# Altium footprint library SOT.PcbLib: 5 footprints
Each footprint in its own frame and in the unit in brackets; x right, y up, seen from the top. Pads: shape width x height; smd on the part's side, far side on the other; paste and mask are expansions set on the pad; w line width, h text height; cw(c..) or ccw(c..) is an arc to the next point about the centre after c.
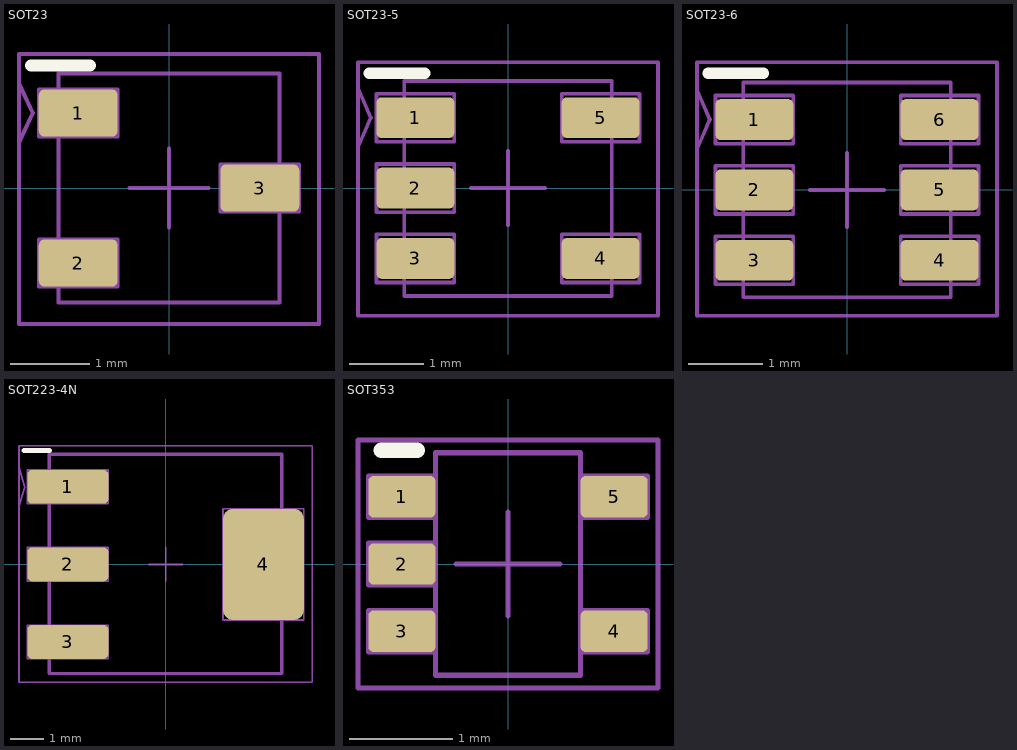
[diagram p0: the footprints below, top view; thin cyan lines are the x and y axes]

## SOT23 [mm] "SOT23 PACKAGE, 3 PIN"
height 1.3
pads (3):
  rrect25% 1x0.6 smd paste+0 mask+0.075: 1(-1.15,0.95) 2(-1.15,-0.95) 3(1.15,0)
Top Overlay:
  lines w0.152: -1.75,1.55 -1,1.55
Top Courtyard:
  lines w0.05: -1.9,0.575 -1.725,0.95 -1.9,1.325 ; -0.5,0 0,0 ; 0,-0.5 0,0 ; 0,0.5 0,0 ; 0.5,0 0,0 ; -1.9,-1.725 1.9,-1.725 1.9,1.7 -1.9,1.7 -1.9,-1.725
Top Assembly:
  lines w0.05: -1.65,-1.25 -0.65,-1.25 -0.65,-0.65 -1.65,-0.65 -1.65,-1.25 ; -1.65,0.65 -0.65,0.65 -0.65,1.25 -1.65,1.25 -1.65,0.65 ; -1.4,-1.45 1.4,-1.45 1.4,1.45 -1.4,1.45 -1.4,-1.45 ; 0.65,-0.3 1.65,-0.3 1.65,0.3 0.65,0.3 0.65,-0.3
3D body "SOT23-3.step": height 1.3, standoff 0, extent -1.4,-1.45 1.4,1.45

## SOT23-5 [mm] "SOT23 PACKAGE, 5 PIN (SOT25)"
height 1.45
pads (5):
  rrect25% 1.05x0.55 smd paste+0 mask+0.075: 1(-1.25,0.95) 2(-1.25,0) 3(-1.25,-0.95) 4(1.25,-0.95) 5(1.25,0.95)
Top Overlay:
  lines w0.152: -1.875,1.55 -1.125,1.55
Top Courtyard:
  lines w0.05: -2.025,0.55 -1.85,0.95 -2.025,1.35 ; -0.5,0 0,0 ; 0,-0.5 0,0 ; 0,0.5 0,0 ; 0.5,0 0,0 ; -2.025,-1.725 2.025,-1.725 2.025,1.7 -2.025,1.7 -2.025,-1.725
Top Assembly:
  lines w0.05: -1.775,-1.275 -0.725,-1.275 -0.725,-0.625 -1.775,-0.625 -1.775,-1.275 ; -1.775,-0.325 -0.725,-0.325 -0.725,0.325 -1.775,0.325 -1.775,-0.325 ; -1.775,0.625 -0.725,0.625 -0.725,1.275 -1.775,1.275 -1.775,0.625 ; -1.401,-1.456 1.399,-1.456 1.399,1.444 -1.401,1.444 -1.401,-1.456 ; 0.725,-1.275 1.775,-1.275 1.775,-0.625 0.725,-0.625 0.725,-1.275 ; 0.725,0.625 1.775,0.625 1.775,1.275 0.725,1.275 0.725,0.625
  text "1" at -1.775,0.625 h0.3
3D body "SOT23-5.step": height 1.45, standoff 0, extent -1.401,-1.456 1.399,1.444

## SOT23-6 [mm] "SOT23 PACKAGE, 6 PIN (SOT26)"
height 1.45
pads (6):
  rrect25% 1.05x0.55 smd paste+0 mask+0.05: 1(-1.25,0.95) 2(-1.25,0) 3(-1.25,-0.95) 4(1.25,-0.95) 5(1.25,0) 6(1.25,0.95)
Top Overlay:
  lines w0.15: -1.875,1.575 -1.125,1.575
Top Courtyard:
  lines w0.05: -2.025,0.55 -1.85,0.95 -2.025,1.35 ; -0.5,0 0,0 ; 0,-0.5 0,0 ; 0,0.5 0,0 ; 0.5,0 0,0 ; -2.025,-1.7 2.025,-1.7 2.025,1.725 -2.025,1.725 -2.025,-1.7
Top Assembly:
  lines w0.05: -1.775,-1.275 -0.725,-1.275 -0.725,-0.625 -1.775,-0.625 -1.775,-1.275 ; -1.775,-0.325 -0.725,-0.325 -0.725,0.325 -1.775,0.325 -1.775,-0.325 ; -1.775,0.625 -0.725,0.625 -0.725,1.275 -1.775,1.275 -1.775,0.625 ; -1.4,-1.45 1.4,-1.45 1.4,1.45 -1.4,1.45 -1.4,-1.45 ; 0.725,-1.275 1.775,-1.275 1.775,-0.625 0.725,-0.625 0.725,-1.275 ; 0.725,-0.325 1.775,-0.325 1.775,0.325 0.725,0.325 0.725,-0.325 ; 0.725,0.625 1.775,0.625 1.775,1.275 0.725,1.275 0.725,0.625
  text "1" at -1.775,0.625 h0.3
3D body "SOT23-6.step": height 1.45, standoff 0, extent -1.4,-1.45 1.4,1.45

## SOT223-4N [mm] "SOT223 SOT-223"
height 1.605
pads (4):
  rrect25% 2.4x1 smd mask+0.075: 1(-2.9,2.3) 2(-2.9,0) 3(-2.9,-2.3)
  rrect25% 2.4x3.3 smd mask+0.075: 4(2.9,0)
Top Overlay:
  lines w0.152: -4.2,3.375 -3.45,3.375
Mechanical 13:
  lines w0.05: -4.1,-2.8 -1.7,-2.8 -1.7,-1.8 -4.1,-1.8 -4.1,-2.8 ; -4.1,-0.5 -1.7,-0.5 -1.7,0.5 -4.1,0.5 -4.1,-0.5 ; -4.1,1.8 -1.7,1.8 -1.7,2.8 -4.1,2.8 -4.1,1.8 ; 1.7,-1.65 4.1,-1.65 4.1,1.65 1.7,1.65 1.7,-1.65
  lines w0.1: -3.451,-3.235 3.44,-3.235 3.44,3.265 -3.451,3.265 -3.451,-3.235
  text "1" at -4.1,1.8 h0.3
  text ".DESIGNATOR" at -3.451,-3.235 h0.25
Mechanical 15:
  lines w0.05: -4.35,1.725 -4.175,2.3 -4.35,2.875 ; -0.5,0 0,0 ; 0,-0.5 0,0 ; 0,0.5 0,0 ; 0.5,0 0,0 ; -4.35,-3.5 4.35,-3.5 4.35,3.525 -4.35,3.525 -4.35,-3.5
3D body "SOT223-4.step": height 1.6, standoff -0.1, extent -3.451,-3.235 3.44,3.265

## SOT353 [mm] "SOT353 SC70-5"
pads (5):
  rrect25% 0.65x0.4 smd paste+0 mask+0.05: 1(-1.025,0.65) 2(-1.025,0) 3(-1.025,-0.65) 4(1.025,-0.65) 5(1.025,0.65)
Top Overlay:
  lines w0.15: -1.225,1.1 -0.875,1.1
Top Courtyard:
  lines w0.05: -0.5,0 0,0 ; 0,-0.5 0,0 ; 0,0.5 0,0 ; 0.5,0 0,0 ; -1.45,-1.2 -1.45,1.2 1.45,1.2 1.45,-1.2 -1.45,-1.2
Top Assembly:
  lines w0.05: -1.35,-0.85 -1.35,-0.45 -1.025,-0.45 -0.7,-0.45 -0.7,-0.85 -1.35,-0.85 ; -1.35,-0.2 -1.35,0.2 -1.025,0.2 -0.7,0.2 -0.7,-0.2 -1.35,-0.2 ; -1.35,0.45 -1.35,0.85 -1.025,0.85 -0.7,0.85 -0.7,0.45 -1.35,0.45 ; -0.7,-1.075 -0.7,1.075 0.7,1.075 0.7,-1.075 -0.7,-1.075 ; 0.7,-0.85 0.7,-0.45 1.025,-0.45 1.35,-0.45 1.35,-0.85 0.7,-0.85 ; 0.7,0.45 0.7,0.85 1.025,0.85 1.35,0.85 1.35,0.45 0.7,0.45
  text "1" at -1.35,0.45 h0.5
3D body "DCK0005AakaMAA05A.stp": height 0.94, standoff -0.01, extent -1.14,-1 1.14,1